# EAGLE library part WE-FLEX+_ETD34 (library Wurth_Power Magnetics_WE-FLEX+)
WE-FLEX+ Flexible Transformer for DC/DC Converter Characteristics Transformer with 6 identical windings Power up to 300 W possible Isolation voltage 500 VDC Low leakage inductance Operating temperature: –40 °C to +125 °C Applications All kind of switching regulators -Flyback converters -Forward converters -Push-pull converters -Step-up/step-down converters -SEPIC converter <https://katalog.we-online.com/media/images/v2/o14788v209%20Family_WE-FLEX_PLUS.jpg> Details see: https://katalog.we-online.com/en/pbs/WE-FLEX-PLUS Updated by Yingchun, Shan 2019-08-15 2019(C) Wurth Elektronik
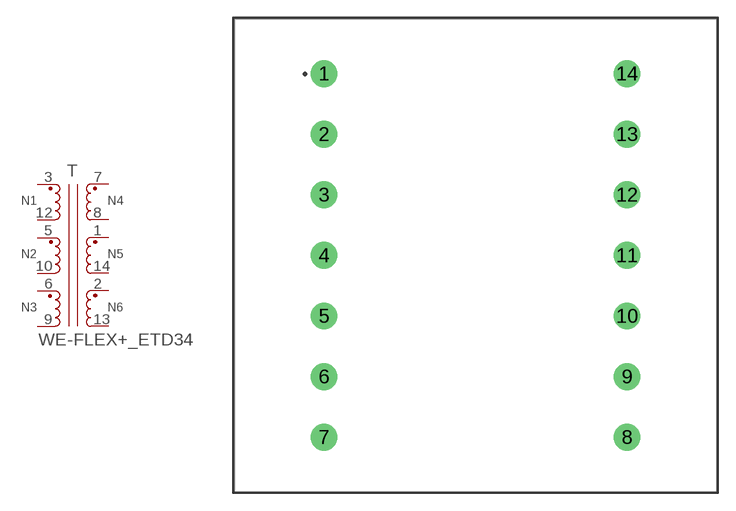
[diagram p2: symbol with the pads of WE-FLEX+_ETD34; footprint WE-FLEX+_ETD34]

Designator prefix T

## WE-FLEX+_ETD34_749197201 (DATASHEET-URL: https://katalog.we-online.com/pbs/datasheet/749197201.pdf; IRBASE: 2.5A; ISATBASE: 0.22A; LSBASE: 0.32uH; N: 1:1:1:1:1:1; PART-NUMBER: 749197201; RDCBASE: 51mOhm; VALUE: 374.4uH; VT: 500 V (AC)), WE-FLEX+_ETD34_749197211 (DATASHEET-URL: https://katalog.we-online.com/pbs/datasheet/749197211.pdf; IRBASE: 2.5A; ISATBASE: 0.33A; LSBASE: 0.32uH; N: 1:1:1:1:1:1; PART-NUMBER: 749197211; RDCBASE: 51mOhm; VALUE: 11.38uH; VT: 500 V (AC)), WE-FLEX+_ETD34_749197221 (DATASHEET-URL: https://katalog.we-online.com/pbs/datasheet/749197221.pdf; IRBASE: 2.5A; ISATBASE: 0.67A; LSBASE: 0.32uH; N: 1:1:1:1:1:1; PART-NUMBER: 749197221; RDCBASE: 51mOhm; VALUE: 69.4uH; VT: 500 V (AC)), WE-FLEX+_ETD34_749197231 (DATASHEET-URL: https://katalog.we-online.com/pbs/datasheet/749197231.pdf; IRBASE: 2.5A; ISATBASE: 1.58A; LSBASE: 0.32uH; N: 1:1:1:1:1:1; PART-NUMBER: 749197231; RDCBASE: 51mOhm; VALUE: 36.1uH; VT: 500 V (AC)), WE-FLEX+_ETD34_749197241 (DATASHEET-URL: https://katalog.we-online.com/pbs/datasheet/749197241.pdf; IRBASE: 2.5A; ISATBASE: 2.91A; LSBASE: 0.32uH; N: 1:1:1:1:1:1; PART-NUMBER: 749197241; RDCBASE: 51mOhm; VALUE: 22uH; VT: 500 V (AC))  [WE-FLEX+_ETD34]
1  10  pas
2  8  pas
3  1  pas
5  3  pas
6  5  pas
7  12  pas
8  11  pas
9  6  pas
10  4  pas
12  2  pas
13  7  pas
14  9  pas

## Footprint WE-FLEX+_ETD34 (pad centres in mm)
WE-FLEX+ Flexible Transformer for DC/DC Converter Size: ETD34 THT 14Pin
drill 1.5: 1 -12.7,15.24; 2 -12.7,10.16; 3 -12.7,5.08; 4 -12.7,0; 5 -12.7,-5.08; 6 -12.7,-10.16; 7 -12.7,-15.24; 8 12.7,-15.24; 9 12.7,-10.16; 10 12.7,-5.08; 11 12.7,0; 12 12.7,5.08; 13 12.7,10.16; 14 12.7,15.24